# Altium footprint library SON10P50_250X100X50L35X20N.PcbLib: 1 footprints
Each footprint in its own frame and in the unit in brackets; x right, y up, seen from the top. Pads: shape width x height; smd on the part's side, far side on the other; paste and mask are expansions set on the pad; w line width, h text height; cw(c..) or ccw(c..) is an arc to the next point about the centre after c.
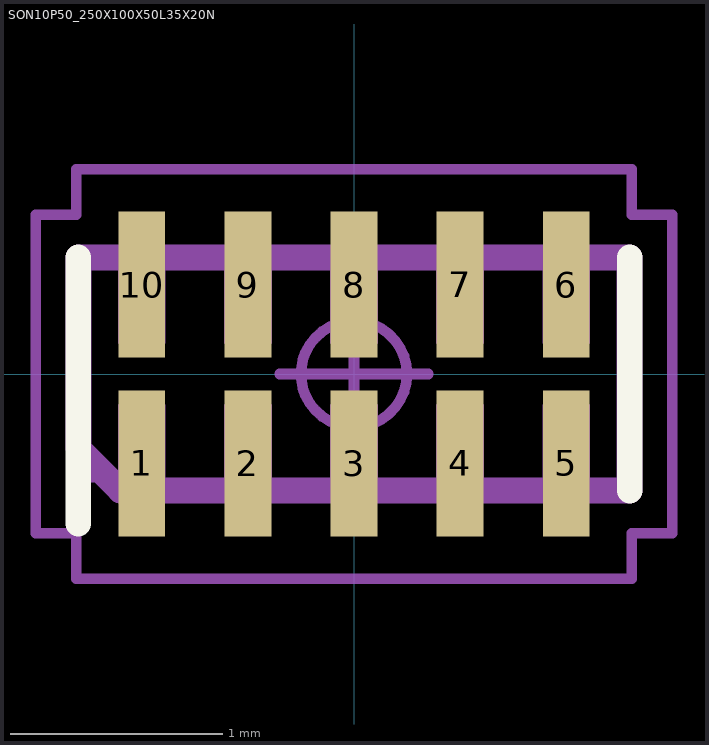
[diagram p0: the footprint, top view; thin cyan lines are the x and y axes]

## SON10P50_250X100X50L35X20N [mm] "Small Outline No-Lead (SON), 0.50 mm pitch; 10 pin, 2.50 mm L X 1.00 mm W X 0.50 mm H Body"
height 0.5
pads (10):
  rect 0.22x0.688 smd: 1(-1,-0.421) 2(-0.5,-0.421) 3(0,-0.421) 4(0.5,-0.421) 5(1,-0.421) 6(1,0.421) 7(0.5,0.421) 8(0,0.421) 9(-0.5,0.421) 10(-1,0.421)
Top Overlay:
  lines w0.12: -1.3,-0.705 -1.3,-0.55 -1.3,0.55 ; 1.3,-0.55 1.3,0.55
Mechanical 3:
  lines w0.12: -1.3,-0.351 -1.101,-0.55 1.3,-0.55 1.3,0.55 -1.3,0.55 -1.3,-0.351
Mechanical 5:
  lines w0.025: -1.25,-0.5 -1.25,0.5 1.25,0.5 1.25,-0.5 -1.25,-0.5 ; -1.1,-0.5 -0.9,-0.5 -0.9,-0.15 -1.1,-0.15 -1.1,-0.5 ; -1.1,0.15 -0.9,0.15 -0.9,0.5 -1.1,0.5 -1.1,0.15 ; -0.6,-0.5 -0.4,-0.5 -0.4,-0.15 -0.6,-0.15 -0.6,-0.5 ; -0.6,0.15 -0.4,0.15 -0.4,0.5 -0.6,0.5 -0.6,0.15 ; -0.1,-0.5 0.1,-0.5 0.1,-0.15 -0.1,-0.15 -0.1,-0.5 ; -0.1,0.15 0.1,0.15 0.1,0.5 -0.1,0.5 -0.1,0.15 ; 0.4,-0.5 0.6,-0.5 0.6,-0.15 0.4,-0.15 0.4,-0.5 ; 0.4,0.15 0.6,0.15 0.6,0.5 0.4,0.5 0.4,0.15 ; 0.9,-0.5 1.1,-0.5 1.1,-0.15 0.9,-0.15 0.9,-0.5 ; 0.9,0.15 1.1,0.15 1.1,0.5 0.9,0.5 0.9,0.15
Mechanical 7:
  circle w0.05: c0,0 r0.25
  lines w0.05: -0.35,0 0.35,0 ; 0,-0.35 0,0.35 ; -1.5,-0.75 -1.5,0.75 -1.31,0.75 -1.31,0.965 1.31,0.965 1.31,0.75 1.5,0.75 1.5,-0.75 1.31,-0.75 1.31,-0.965 -1.31,-0.965 -1.31,-0.75 -1.5,-0.75
Mechanical 9:
  text "'.Designator'" at -5.182,-0.398 h1.02
3D body "SON10P50_250X100X50L35X20.STEP": height 0.5, standoff 0, extent -1.25,-0.55 1.25,0.55
3D body: height 23.4, standoff -5, extent -1.5,-0.965 1.5,0.965